# Altium schematic symbol library potentiometers.SchLib: 1 symbol
Pins are listed as number, name and electrical type; pins without a type are passive.

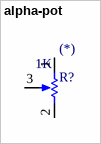
[diagram p0: symbol alpha-pot]

## alpha-pot
designator R?, comment value 1K  TYPE: (*)  (hidden comment: ALPHA Potentiometer)
Potentiometer; Sim Note: Enter the Resistance value and the set point into parameter fields.; Set Position: 0.5; Published: 8-Jun-2000; LatestRevisionDate: 17-Jul-2002; LatestRevisionNote: Re-released for DXP Platform.; PackageReference: VR5; Publisher: Altium Limited; PackageDescription: Variable Resistor, Thru-Hole; 3 Leads
footprint pot_alpha (Thru-Hole; 3 Leads)
simulation model POT (Potentiometer)
pins: 1 TOP, 2 BOT, 3 TAP
1 alternate drawing of the same symbol